# EAGLE library part RADIO_10CH (library quadcopter_comp)
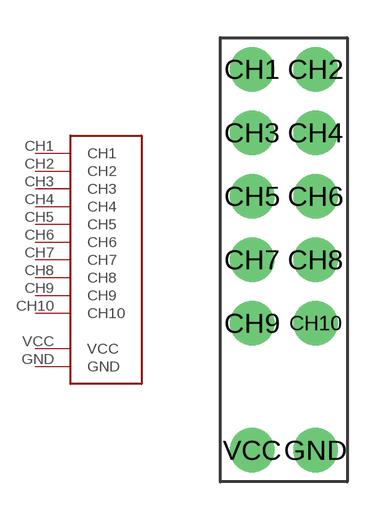
[diagram p8: symbol with the pads of RADIO_10CH; footprint RADIO_10CH]

Designator prefix -

## RADIO_10CH  [RADIO_10CH]
CH1  CH1
CH2  CH2
CH3  CH3
CH4  CH4
CH5  CH5
CH6  CH6
CH7  CH7
CH8  CH8
CH9  CH9
CH10  CH10
GND  GND
VCC  VCC

## Footprint RADIO_10CH (pad centres in mm)
drill 0.8 pad 1.778: CH1 -1.27,7.62; CH2 1.27,7.62; CH3 -1.27,5.08; CH4 1.27,5.08; CH5 -1.27,2.54; CH6 1.27,2.54; CH7 -1.27,0; CH8 1.27,0; CH9 -1.27,-2.54; CH10 1.27,-2.54; GND 1.27,-7.62; VCC -1.27,-7.62